# Altium footprint library Light Driver.PcbLib: 9 footprints
Each footprint in its own frame and in the unit in brackets; x right, y up, seen from the top. Pads: shape width x height; smd on the part's side, far side on the other; paste and mask are expansions set on the pad; w line width, h text height; cw(c..) or ccw(c..) is an arc to the next point about the centre after c.
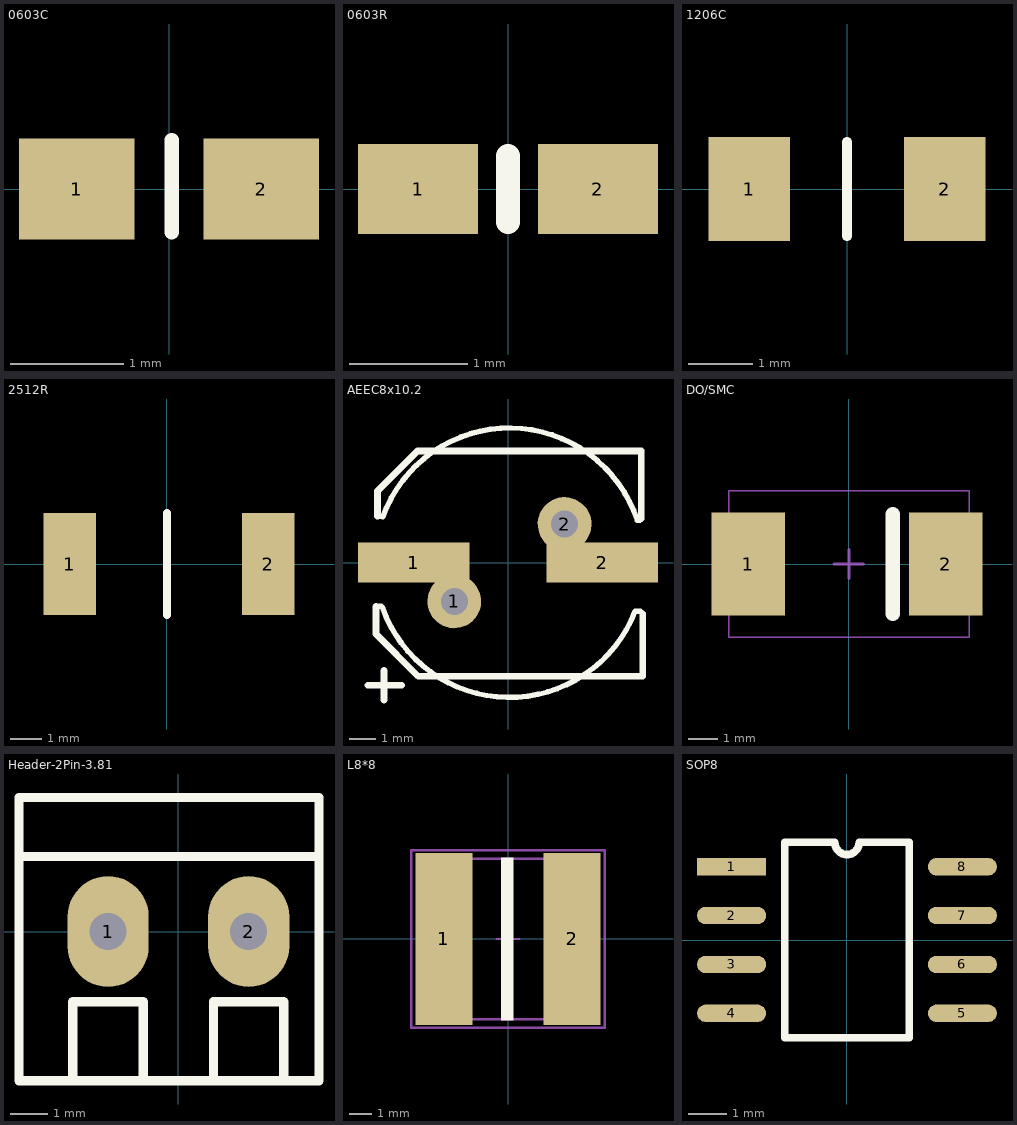
[diagram p0: the footprints below, top view; thin cyan lines are the x and y axes]

## 0603C [mil]
pads (2):
  rect 40x35 smd: 1(-32,0) 2(32,0)
Top Overlay:
  lines w5: 1,-15 1,17
3D body: height 35.04, standoff -0.39, extent -50.17,-18.4 52.2,20.97

## 0603R [mil]
pads (2):
  rect 40x30 smd: 1(-30,0) 2(30,0)
Top Overlay:
  lines w7.87: 0,-11 0,11
3D body: height 17.72, standoff 0, extent -31.49,-15.74 31.5,15.75

## 1206C [mil]
pads (2):
  rect 50x64 smd: 1(-60,0) 2(60,0)
Top Overlay:
  lines w6: 0,-29 0,29
3D body: height 39.37, standoff 3.94, extent -64,-32 70,32

## 2512R [mm]
pads (2):
  rect 1.65x3.2 smd: 1(-3.048,0) 2(3.175,0)
Top Overlay:
  lines w0.254: 0,-1.6 0,1.6
3D body: height 1, standoff 0.1, extent -3.2,-1.651 3.302,1.651

## AEEC8x10.2 [mil]
pads (4):
  rect 165.35x59.06 smd: 1(-140,0.14) 2(140,0.14)
  round 80 hole 40: 1(-79.73,-57.36) 2(84.1,57.36)
Top Layer:
  lines w39.37: -111,0.14 -79.73,-31.14 -79.73,-57.36 ; 84.1,57.36 84.1,8.03 95,-2.86
Top Overlay:
  lines w5: -196,-64.86 -194.8,-66.07 -186.58,-66.07 ; -193.78,69.14 -187.02,69.14 -185.89,68.01 ; 188.7,-72.2 196.34,-72.2 200,-75.86 ; 191.94,63.22 195.78,63.22
  lines w7.87: -196,-64.86 -188,-64.86 ; -193.78,69.14 -187.02,69.14 -185.89,68.01 ; 188.7,-72.2 196.34,-72.2 200,-75.86 ; 191.94,63.22 195.78,63.22 197.7,65.14
  lines w8: -186.58,-66.07 ccw(c2.19,0) 188.7,-72.2 ; -185.89,68.01 cw(c2.19,0) 191.93,63.22
  lines w10: -208,-181.86 -158,-181.86 ; -196,-64.86 -196,-105.86 -133.35,-168.51 200,-168.51 200,-75.86 ; -193.78,69.14 -193.78,106.35 -134.35,165.78 197.7,165.78 197.7,65.14 ; -184,-203.86 -184,-159.86
3D body: height 413.39, standoff 0, extent -171.79,-167.78 182.54,158.99

## DO/SMC [mm]
pads (2):
  rect 2.5x3.5 smd: 1(-3.429,0) 2(3.302,0)
Top Overlay:
  lines w0.5: 1.5,-1.7 1.5,1.7
Mechanical 15:
  lines w0.05: -4.1,-2.5 -4.1,2.5 4.1,2.5 4.1,-2.5 -4.1,-2.5
  lines w0.1: -0.5,0 0.5,0 ; 0,-0.5 0,0.5
3D body: height 2.3, standoff 0, extent -3.975,-2.95 3.975,2.95

## Header-2Pin-3.81 [mm]
pads (2):
  oval 2.2x3 hole 1: 1(-1.905,0) 2(1.905,0)
Top Overlay:
  lines w0.254: -4.318,2.032 3.81,2.032 ; -2.857,-4.039 -2.857,-1.905 -0.953,-1.905 -0.953,-4.039 ; 0.953,-4.039 0.953,-1.905 2.857,-1.905 2.857,-4.039 ; -4.318,-4.039 3.81,-4.039 3.81,3.632 -4.318,3.632 -4.318,-4.039
3D body: height 8.55, standoff -3.95, extent -4.31,-3.9 0,3.5
3D body: height 8.55, standoff -3.95, extent -0.5,-3.9 3.81,3.5

## L8*8 [mm]
pads (2):
  rect 2.5x7.5 smd: 1(-2.8,0) 2(2.8,0)
Top Overlay:
  rectangle: -0.3,-3.556 0.25,3.556
Mechanical 13:
  rectangle: -3.5,-3.5 -2.558,3.5
  lines w0.1: -3.5,-3.5 -3.5,3.5 3.5,3.5 3.5,-3.5 -3.5,-3.5
Mechanical 15:
  lines w0.1: -0.5,0 0.5,0 ; 0,-0.5 0,0.5 ; -4.225,-3.875 -4.225,3.875 4.225,3.875 4.225,-3.875 -4.225,-3.875
3D body: height 1.2, standoff 0.15, extent -3.937,-3.937 3.937,3.937

## SOP8 [mm]
pads (8):
  rect 1.8x0.45 smd: 1(-3,1.905)
  oval 1.8x0.45 smd: 2(-3,0.635) 3(-3,-0.635) 4(-3,-1.905) 5(3,-1.905) 6(3,-0.635) 7(3,0.635) 8(3,1.905)
Top Overlay:
  lines w0.2: -1.615,-2.54 1.615,-2.54 1.615,2.54 0.318,2.54 cw(c0,2.54) -0.318,2.54 -1.615,2.54 -1.615,-2.54
3D body: height 1.7, standoff 0, extent -3.003,-2.476 2.997,2.424